# Altium footprint library Sensor.PcbLib: 20 footprints (part 1 of 2)
Each footprint in its own frame and in the unit in brackets; x right, y up, seen from the top. Pads: shape width x height; smd on the part's side, far side on the other; paste and mask are expansions set on the pad; w line width, h text height; cw(c..) or ccw(c..) is an arc to the next point about the centre after c.
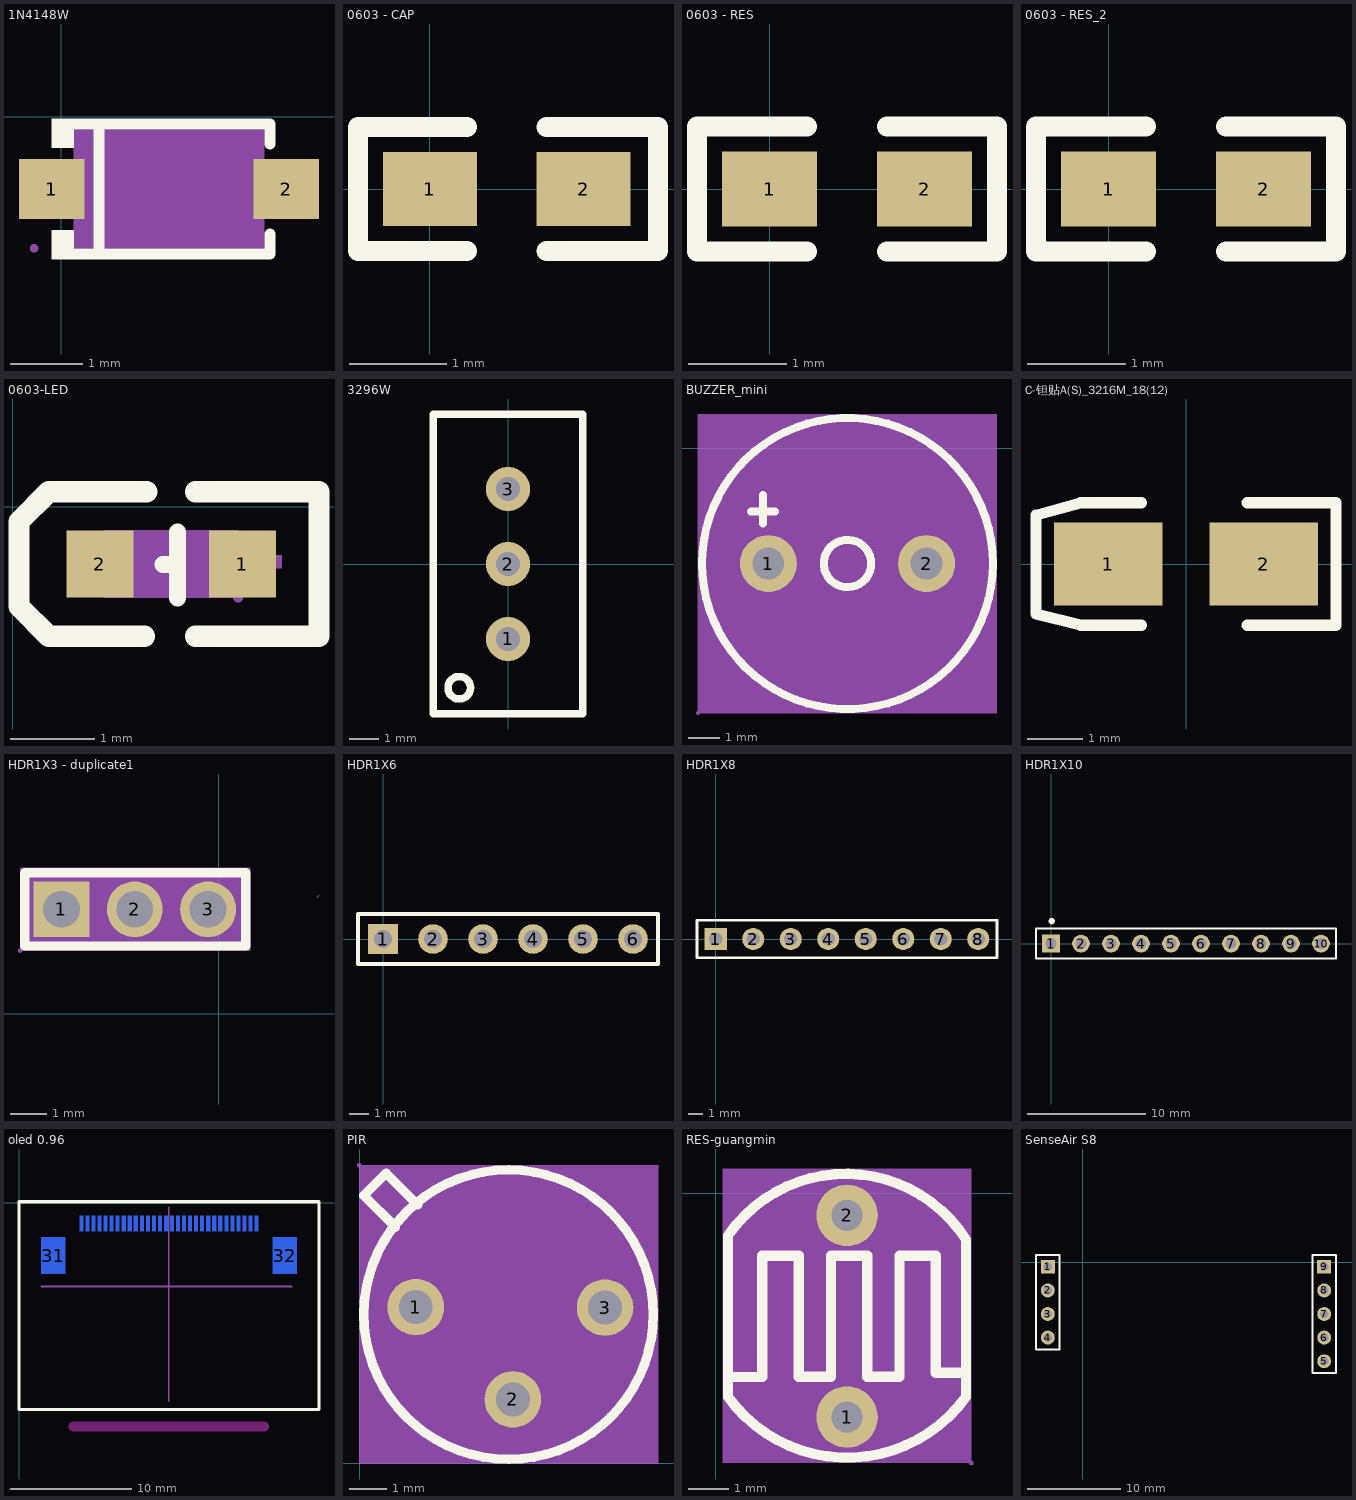
[diagram p0: the footprints below, top view; thin cyan lines are the x and y axes]

## 1N4148W [mm]
pads (2):
  rect 0.91x0.84 smd: 1(-0.129,-1.004) 2(3.131,-1.004)
Top Overlay:
  region: 0.176,-1.981 0.176,-1.576 -0.129,-1.576 -0.129,-1.981
  region: 0.176,-0.026 0.176,-0.431 -0.129,-0.431 -0.129,-0.026
  lines w0.152: 0.1,-1.905 2.902,-1.905 2.902,-1.627 ; 0.1,-0.103 2.902,-0.103 2.902,-0.381 ; 0.529,-1.905 0.529,-0.103
Mechanical 4:
  region: 0.176,-1.829 0.176,-0.179 2.826,-0.179 2.826,-1.829
Mechanical 5:
  pour cut-out: 2.816,-1.304 2.816,-0.704 3.036,-0.704 3.036,-1.304
  region: 3.376,-1.304 3.376,-0.704 3.026,-0.704 3.026,-1.304
  pour cut-out: 0.186,-1.304 0.186,-0.704 -0.034,-0.704 -0.034,-1.304
  region: -0.374,-1.304 -0.374,-0.704 -0.024,-0.704 -0.024,-1.304
Mechanical 6:
  circle w0.06: c-0.374,-1.829 r0.03
Mechanical 15:
  region: 2.331,-0.344 2.331,-1.664 2.133,-1.664 2.133,-0.344
  region: 2.628,-0.905 2.628,-1.103 1.836,-1.103 1.836,-0.905
  region: 0.374,-0.905 0.374,-1.103 1.166,-1.103 1.166,-0.905

## 0603 - CAP [mil]
pads (2):
  rect 38x30 smd: 1(0,0) 2(62,0)
Top Overlay:
  lines w8: 15,-25 -29,-25 -29,25 15,25 ; 47,-25 92,-25 92,25 47,25
3D body "0603 SMD Capacitor.STEP": height 11.89, standoff 0, extent 0.5,-16 63.5,15.49

## 0603 - RES [mil]
pads (2):
  rect 38x30 smd: 1(0,0) 2(62,0)
Top Overlay:
  lines w8: 15,-25 -29,-25 -29,25 15,25 ; 47,-25 91,-25 91,25 47,25
3D body "R0603.STEP": height 17.72, standoff 0, extent -0.49,-15.74 62.5,15.75

## 0603 - RES_2 [mil]
pads (2):
  rect 38x30 smd: 1(0,0) 2(62,0)
Top Overlay:
  lines w8: 15,-25 -29,-25 -29,25 15,25 ; 47,-25 91,-25 91,25 47,25
3D body "R0603.STEP": height 17.72, standoff 0, extent -0.49,-15.74 62.5,15.75

## 0603-LED [mm]
pads (2):
  rect 0.8x0.8 smd: 1(2.743,-0.686) 2(1.041,-0.686)
Top Overlay:
  lines w0.203: 1.793,-0.694 1.968,-0.694 ; 1.968,-1.092 1.968,-0.305
  lines w0.254: 1.575,-1.549 0.432,-1.549 0.076,-1.194 0.076,-0.178 0.432,0.178 1.6,0.178 ; 2.184,-1.549 3.658,-1.549 3.658,0.178 2.184,0.178
Mechanical 4:
  region: 1.092,-0.286 2.692,-0.286 2.692,-1.086 1.092,-1.086
Mechanical 5:
  region: 2.692,-0.286 2.692,-1.086 2.392,-1.086 2.392,-0.286
  region: 1.092,-1.086 1.092,-0.286 1.392,-0.286 1.392,-1.086
Mechanical 6:
  circle w0.06: c2.692,-1.086 r0.03
Mechanical 15:
  region: 2.553,-0.584 3.213,-0.584 3.213,-0.737 2.553,-0.737
  region: 2.828,-0.961 2.828,-0.301 2.98,-0.301 2.98,-0.961
  region: 0.699,-0.636 1.359,-0.636 1.359,-0.789 0.699,-0.789

## 3296W [mm]
height 2.38
pads (3):
  round 1.5 hole 0.8: 1(0,-2.54) 2(0,0) 3(0,2.54)
Top Overlay:
  circle w0.254: c-1.651,-4.191 r0.381
  lines w0.254: -2.54,-5.08 -2.54,5.08 2.54,5.08 2.54,-5.08 -2.54,-5.08
3D body "3296 pot.step": height 11.55, standoff -6.4, extent -2.413,-4.765 2.418,4.765

## BUZZER_mini [mm]
pads (2):
  round 1.8 hole 1: 1(4.111,-3.65) 2(9.111,-3.65)
Top Overlay:
  circle w0.254: c6.611,-3.65 r0.75
  circle w0.254: c6.611,-3.65 r4.6
  lines w0.254: 3.563,-1.999 4.325,-1.999 ; 3.944,-2.38 3.944,-1.491
Mechanical 4:
  region: 1.884,1.076 11.338,1.076 11.338,-8.377 1.884,-8.377
Mechanical 5:
  circle w0.4: c9.111,-3.65 r0.2
  circle w0.4: c4.111,-3.65 r0.2
Mechanical 6:
  circle w0.06: c1.884,-8.377 r0.03
Mechanical 15:
  lines w0.003: 6.571,-3.165 6.622,-3.114

## C-钽贴A(S)_3216M_18(12) [mm]
pads (2):
  rect 1.95x1.5 smd: 1(-1.4,0) 2(1.4,0)
Top Overlay:
  lines w0.203: -2.7,-0.9 -1.9,-1.1 -0.8,-1.1 ; -2.7,0.878 -1.9,1.1 -0.8,1.1 ; 1.1,-1.1 2.7,-1.1 2.7,1.1 1.1,1.1
  lines w0.205: -2.7,-0.9 -2.7,0.878
3D body "3216.STEP": height 1.8, standoff -0.04, extent -2.398,-0.903 2.398,0.9

## HDR1X3 - duplicate1 [mil] "2mm 3 pin 排针"
pads (3):
  rect 60x60 hole 39.37: 1(-168.82,112.21)
  round 60 hole 39.37: 2(-90.08,112.21) 3(-11.34,112.21)
Top Layer:
  region: 3,4
  region: 3,4
  region: 3,4
Top Overlay:
  lines w10: -208.19,72.84 -208.19,151.58 29,151.58 29,72.84 -208.19,72.84
Mechanical 4:
  region: -213.19,156.58 34,156.58 34,67.84 -213.19,67.84
Mechanical 5:
  circle w15.75: c-168.82,112.21 r7.87
  circle w15.75: c-90.08,112.21 r7.87
  circle w15.75: c-11.34,112.21 r7.87
Mechanical 6:
  circle w2.36: c-213.19,67.84 r1.18
Mechanical 15:
  lines w0.1: 105.77,125.36 107.77,127.36

## HDR1X6 [mm] "Connector; Header; 6 Position"
height 1
pads (6):
  rect 1.5x1.5 hole 0.9: 1(0,0)
  round 1.5 hole 0.9: 2(2.54,0) 3(5.08,0) 4(7.62,0) 5(10.16,0) 6(12.7,0)
Top Overlay:
  lines w0.2: -1.27,-1.27 -1.27,1.27 13.97,1.27 13.97,-1.27 -1.27,-1.27
3D body "1001-6.STEP": height 8.54, standoff -3, extent -1.372,-1.27 13.868,1.27

## HDR1X8 [mm] "Connector; Header; 8 Position"
height 1
pads (8):
  rect 1.5x1.5 hole 0.9: 1(0,0)
  round 1.5 hole 0.9: 2(2.54,0) 3(5.08,0) 4(7.62,0) 5(10.16,0) 6(12.7,0) 7(15.24,0) 8(17.78,0)
Top Overlay:
  lines w0.2: -1.27,-1.27 -1.27,1.27 19.05,1.27 19.05,-1.27 -1.27,-1.27
3D body "1001-8.STEP": height 8.54, standoff -3, extent -1.27,-1.27 19.05,1.27

## HDR1X10 [mm] "Connector; Header; 10 Position"
pads (10):
  rect 1.5x1.5 hole 0.9: 1(0,0)
  round 1.5 hole 0.9: 2(2.54,0) 3(5.08,0) 4(7.62,0) 5(10.16,0) 6(12.7,0) 7(15.24,0) 8(17.78,0) 9(20.32,0) 10(22.86,0)
Top Overlay:
  circle w0.254: c0.059,1.9 r0.141
  lines w0.2: -1.27,-1.27 -1.27,1.27 0.635,1.27 24.13,1.27 24.13,-1.27 -1.27,-1.27
3D body "HDR1x10.STEP": height 8.54, standoff -3, extent -1.27,-1.27 24.13,1.27

## oled 0.96 [mm]
pads (32):
  rect 0.3x1.3 smd far side: 1(5.139,-1.733) 2(5.638,-1.733) 3(6.139,-1.733) 4(6.639,-1.733) 5(7.14,-1.733) 6(7.64,-1.733) 7(8.14,-1.733) 8(8.64,-1.734) 9(9.139,-1.734) 10(9.639,-1.734) 11(10.14,-1.734) 12(10.64,-1.734) 13(11.14,-1.734) 14(11.64,-1.734) 15(12.14,-1.734) 16(12.64,-1.734) 17(13.14,-1.734) 18(13.64,-1.734) 19(14.14,-1.734) 20(14.64,-1.734) 21(15.14,-1.734) 22(15.64,-1.734) 23(16.14,-1.734) 24(16.64,-1.734) 25(17.14,-1.734) 26(17.64,-1.734) 27(18.14,-1.734) 28(18.64,-1.734) 29(19.14,-1.734) 30(19.64,-1.734)
  rect 2x3 smd far side: 31(2.789,-4.384) 32(21.99,-4.384)
Top Overlay:
  lines w0.254: -0.034,-17.149 -0.034,0.09 ; 0,-17.138 24.747,-17.138 ; 0.027,0.071 24.775,0.071 ; 24.816,-17.149 24.816,0.09
Bottom Overlay:
  lines w0.254: 2.59,-2.313 22.169,-2.313 22.169,-6.696 ; 2.611,-2.296 2.611,-6.741 22.113,-6.741 ; 2.711,-5.932 22.014,-5.932 ; 4.39,-3.733 4.888,-3.233 5.388,-3.733 4.39,-3.733
  text "30" at 20.156,-1.964 h1.78
  text "1" at 4.367,-1.934 h1.78
Keep-Out Layer:
  lines w0.8: 4.451,-18.538 20.284,-18.538
Mechanical 15:
  lines w0.003: 12.365,-3.078 12.415,-3.027
  lines w0.152: 1.802,-6.949 22.524,-6.949 ; 12.375,-16.454 12.375,-0.403

## PIR [mil] "人体热释电传感器 3pin"
pads (3):
  round 60 hole 36: 1(59.64,165.78) 2(162.64,67.88) 3(260.44,165.18)
Top Overlay:
  circle w10: c158.1,157.87 r153.54
  lines w10: 37.99,250.69 4.53,284.14 28.15,307.76 61.62,274.31
Mechanical 4:
  region: -0.47,316.4 316.64,316.4 316.64,-0.68 -0.47,-0.68
Mechanical 5:
  circle w14.06: c59.64,165.78 r7.03
  circle w14.06: c162.64,67.88 r7.03
  circle w14.06: c260.44,165.18 r7.03
Mechanical 6:
  circle w2.36: c-0.47,316.4 r1.18
Mechanical 15:
  lines w0.1: 159.04,170.84 161.04,172.84

## RES-guangmin [mil] "光敏电阻"
pads (2):
  round 60 hole 30 slot 30.2 at 90 deg: 1(128.14,-218.19) 2(128.14,-21.34)
Top Overlay:
  lines w10: 12,-179.09 45.47,-179.09 45.47,-68.59 45.47,-60.72 80.9,-60.72 80.9,-178.82 112.39,-178.82 112.39,-60.72 147.83,-60.72 147.83,-178.82 179.32,-178.82 179.32,-60.72 214.76,-60.72 214.76,-174.89 244.28,-174.89 ; 244.24,-198.47 cw(c128.11,-114.52) 12,-198.51 12,-41.03 cw(c126.81,-120.39) 244.24,-44.97 ; 244.28,-198.51 244.28,-44.97
Mechanical 4:
  region: 7,24.18 249.28,24.18 249.28,-262.82 7,-262.82
Mechanical 5:
  region: 140.14,-21.25 140.14,-21.45 116.14,-21.45 116.14,-21.25
  region: 140.14,-218.09 140.14,-218.29 116.14,-218.29 116.14,-218.09
Mechanical 6:
  circle w2.36: c249.28,-262.82 r1.18
Mechanical 15:
  lines w0.1: 127.73,-101.64 129.73,-99.64

## SenseAir S8 [mm]
pads (9):
  rect 1.5x1.5 hole 0.9: 1(-3.759,-0.508) 9(25.959,-0.508)
  round 1.5 hole 0.9: 2(-3.759,-3.048) 3(-3.759,-5.588) 4(-3.759,-8.128) 5(25.959,-10.668) 6(25.959,-8.128) 7(25.959,-5.588) 8(25.959,-3.048)
Top Overlay:
  lines w0.2: -5.029,-9.398 -2.489,-9.398 -2.489,0.762 -5.029,0.762 -5.029,-9.398 ; 24.689,-11.938 24.689,0.762 27.229,0.762 27.229,-11.938 24.689,-11.938
3D body "1001-5.STEP": height 8.54, standoff -3, extent 24.689,-11.938 27.229,0.762
3D body "1001-4.STEP": height 8.54, standoff -3, extent -5.026,-9.405 -2.486,0.755